# EAGLE library part ARDUINO_NICLA (library ArduinoNicla)
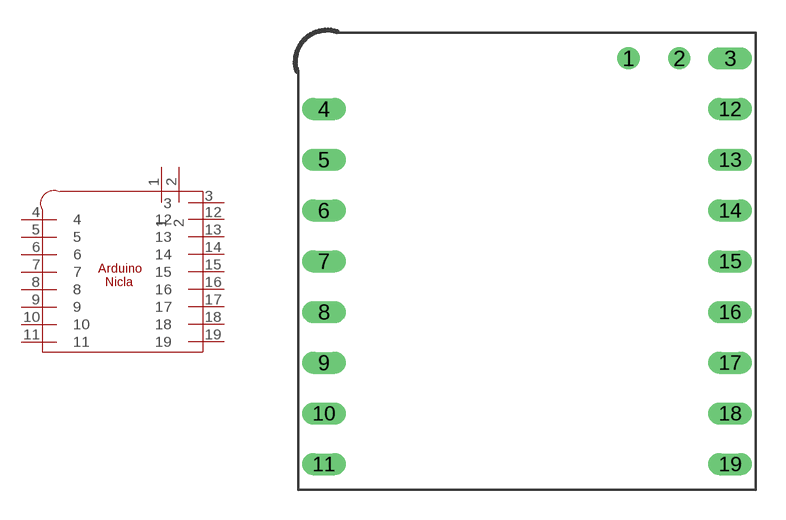
[diagram p0: symbol with the pads of ARDUINO_NICLA; footprint ARDUINO_NICLA]

Designator prefix -

## ARDUINO_NICLA  [ARDUINO_NICLA]
1  1
2  2
3  3
4  4
5  5
6  6
7  7
8  8
9  9
10  10
11  11
12  12
13  13
14  14
15  15
16  16
17  17
18  18
19  19

## Footprint ARDUINO_NICLA (pad centres in mm)
Arduino Nicla Vision/SenseMe
drill 0.6: 1 5.08,10.16; 2 7.62,10.16
drill 0.6 long: 3 10.16,10.16; 4 -10.16,7.62; 5 -10.16,5.08; 6 -10.16,2.54; 7 -10.16,0; 8 -10.16,-2.54; 9 -10.16,-5.08; 10 -10.16,-7.62; 11 -10.16,-10.16; 12 10.16,7.62; 13 10.16,5.08; 14 10.16,2.54; 15 10.16,0; 16 10.16,-2.54; 17 10.16,-5.08; 18 10.16,-7.62; 19 10.16,-10.16